# Altium schematic symbol library TBU.SchLib: 1 symbol
Pins are listed as number, name and electrical type; pins without a type are passive.

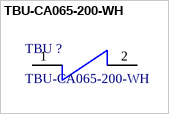
[diagram p0: symbol TBU-CA065-200-WH]

## TBU-CA065-200-WH
designator TBU ?
Board Mount Surge Protectors Bi-directional TBU; Manufacturer: BOURNS; Voltage Rating: 650 V; Current Rating: 400 mA; ComponentLink1Description: Datasheet; ComponentLink1URL: https://www.mouser.vn/datasheet/2/54/TBU_CA-778169.pdf; LCSC Part #: C913221; Manufacturer Part Number: TBU-CA065-200-WH; Mount: SMD/SMT; Operating Temperature Max: + 125 C; Operating Temperature Min: - 55 C; Packaging: Tape and Reel; Supplier 1: Mouser; Supplier 1 Part Number: 652-TBU-CA065-200-WH; Supplier 1 URL: https://www.mouser.com/ProductDetail/Bourns/TBU-CA065-200-WH?qs=kLtMOTa49OkdVs42fYbv8A%3D%3D; Supplier 2: Digi-Key; Supplier 2 Part Number: N/A; Supplier 2 URL: N/A; Supplier 3: thegioiic; Supplier 3 Part Number: N/A; Supplier 3 URL: N/A; Value: TBU-CA065-200-WH
footprint TBU-CA065-200-WH (SON, 3-Leads, Body 6.50x4.00mm, Pitch 1.27mm, IPC Medium Density)
pins: 1 Line IN/OUT, 2 Line OUT/IN